# Altium schematic symbol library stepper.SchLib: 1 symbol
Pins are listed as number, name and electrical type; pins without a type are passive.

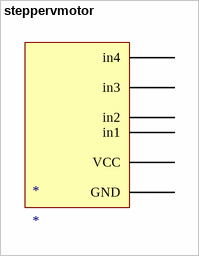
[diagram p0: symbol steppervmotor]

## steppervmotor
designator *
pins: 6 in4, 7 in3, 8 in2, 9 GND (power), 10 VCC, 11 in1